# Altium footprint library btretro_pcblib.PcbLib: 40 footprints (part 3 of 3)
Each footprint in its own frame and in the unit in brackets; x right, y up, seen from the top. Pads: shape width x height; smd on the part's side, far side on the other; paste and mask are expansions set on the pad; w line width, h text height; cw(c..) or ccw(c..) is an arc to the next point about the centre after c.
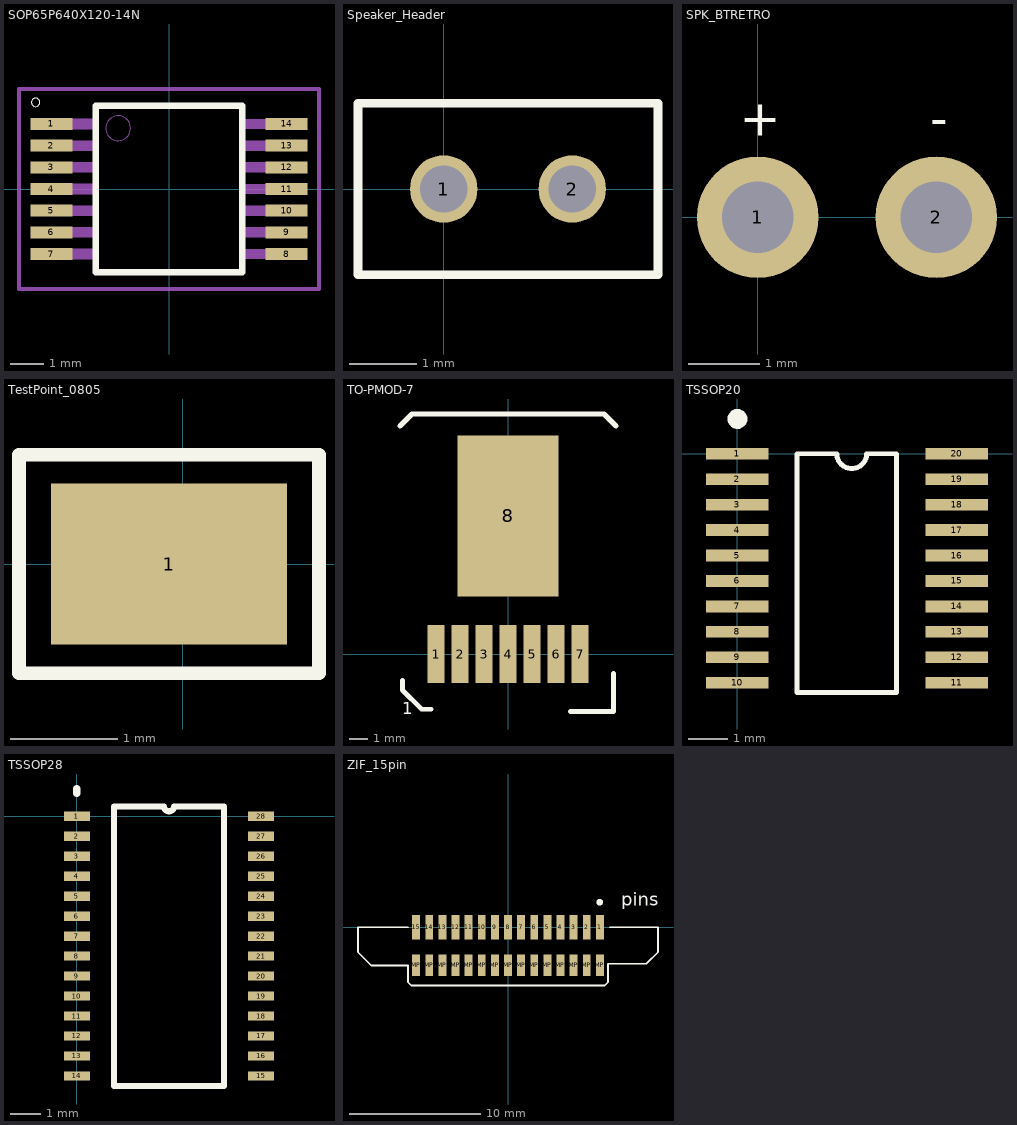
[diagram p2: the footprints below, top view; thin cyan lines are the x and y axes]

## SOP65P640X120-14N [mm]
pads (14):
  rect 1.26x0.36 smd: 1(-3.53,1.95) 2(-3.53,1.3) 3(-3.53,0.65) 4(-3.53,0) 5(-3.53,-0.65) 6(-3.53,-1.3) 7(-3.53,-1.95) 8(3.53,-1.95) 9(3.53,-1.3) 10(3.53,-0.65) 11(3.53,0) 12(3.53,0.65) 13(3.53,1.3) 14(3.53,1.95)
Top Overlay:
  circle w0: c-4,2.6 r0.127
  lines w0.203: -2.2,-2.5 -2.2,2.5 2.2,2.5 2.2,-2.5 -2.2,-2.5
Mechanical 1:
  circle w0: c-1.525,1.825 r0.375
  region: -2.227,2.102 -2.227,1.799 -3.201,1.799 -3.201,2.102
  region: -2.225,1.45 -2.225,1.15 -3.2,1.15 -3.2,1.45
  region: -2.228,0.803 -2.228,0.498 -3.202,0.498 -3.202,0.803
  region: -2.226,0.151 -2.226,-0.151 -3.201,-0.151 -3.201,0.151
  region: -2.226,-0.499 -2.226,-0.802 -3.202,-0.802 -3.202,-0.499
  region: -2.225,-1.15 -2.225,-1.452 -3.202,-1.452 -3.202,-1.15
  region: -2.225,-1.8 -2.225,-2.104 -3.204,-2.104 -3.204,-1.8
  region: 2.225,-2.1 2.225,-1.8 3.2,-1.8 3.2,-2.1
  region: 2.225,-1.45 2.225,-1.151 3.201,-1.151 3.201,-1.45
  region: 2.226,-0.799 2.226,-0.503 3.203,-0.503 3.203,-0.799
  region: 2.226,-0.149 2.226,0.148 3.202,0.148 3.202,-0.149
  region: 2.227,0.502 2.227,0.798 3.202,0.798 3.202,0.502
  region: 2.228,1.153 2.228,1.449 3.201,1.449 3.201,1.153
  region: 2.226,1.801 2.226,2.1 3.2,2.1 3.2,1.801
  lines w0.127: -4.5,-3 4.5,-3 4.5,3 -4.5,3 -4.5,-3

## Speaker_Header [mm]
pads (2):
  round 1 hole 0.7: 1(0,0) 2(1.905,0)
Top Overlay:
  lines w0.127: -1.27,-1.27 -1.27,1.27 1.016,1.27 3.175,1.27 3.175,-1.27 -1.27,-1.27

## SPK_BTRETRO [mm]
pads (2):
  round 1.7 hole 1: 1(0,0) 2(2.5,0)
Top Overlay:
  text "-" at 2.413,1.143 h0.5
  text "+" at -0.254,1.143 h0.5

## TestPoint_0805 [mm]
pads (1):
  rect 2.2x1.5 smd: 1(-0.127,0)
Top Overlay:
  lines w0.127: -1.524,-1.016 1.27,-1.016 1.27,1.016 0.508,1.016 -1.524,1.016 -1.524,-1.016

## TO-PMOD-7 [mm]
pads (8):
  rect 0.89x3.06 smd: 1(-3.81,0) 2(-2.54,0) 3(-1.27,0) 4(0,0) 5(1.27,0) 6(2.54,0) 7(3.81,0)
  rect 5.35x8.54 smd: 8(0,7.305)
Top Overlay:
  lines w0.254: -5.715,12.065 -5.08,12.7 0,12.7 5.08,12.7 5.715,12.065 ; -5.588,-1.397 -5.588,-1.905 -4.572,-2.921 -4.064,-2.921 ; 3.302,-3.048 5.588,-3.048 5.588,-1.016
  text "1" at -5.588,-3.175 h0.64

## TSSOP20 [mm]
pads (20):
  rect 1.6x0.3 smd: 1(0,0) 2(0,-0.65) 3(0,-1.3) 4(0,-1.95) 5(0,-2.6) 6(0,-3.25) 7(0,-3.9) 8(0,-4.55) 9(0,-5.2) 10(0,-5.85) 11(5.6,-5.85) 12(5.6,-5.2) 13(5.6,-4.55) 14(5.6,-3.9) 15(5.6,-3.25) 16(5.6,-2.6) 17(5.6,-1.95) 18(5.6,-1.3) 19(5.6,-0.65) 20(5.6,0)
Top Overlay:
  circle w0.254: c0,0.889 r0.127
  lines w0.127: 1.524,-6.096 4.064,-6.096 4.064,0 3.302,0 cw(c2.921,0) 2.54,0 1.524,0 1.524,-6.096

## TSSOP28 [mm]
pads (28):
  rect 0.85x0.3 smd: 1(0,0) 2(0,-0.65) 3(0,-1.3) 4(0,-1.95) 5(0,-2.6) 6(0,-3.25) 7(0,-3.9) 8(0,-4.55) 9(0,-5.2) 10(0,-5.85) 11(0,-6.5) 12(0,-7.15) 13(0,-7.8) 14(0,-8.45) 15(6,-8.45) 16(6,-7.8) 17(6,-7.15) 18(6,-6.5) 19(6,-5.85) 20(6,-5.2) 21(6,-4.55) 22(6,-3.9) 23(6,-3.25) 24(6,-2.6) 25(6,-1.95) 26(6,-1.3) 27(6,-0.65) 28(6,0)
Top Overlay:
  lines w0.2: 1.21,-8.775 1.21,0.325 2.838,0.325 ccw(c3,0.325) 3.162,0.325 4.79,0.325 4.79,-8.775 1.21,-8.775
  lines w0.254: 0,0.762 0,0.889

## ZIF_15pin [mm]
pads (30):
  rect 0.6x1.85 smd: 1(7,0) 2(6,0) 3(5,0) 4(4,0) 5(3,0) 6(2,0) 7(1,0) 8(0,0) 9(-1,0) 10(-2,0) 11(-3,0) 12(-4,0) 13(-5,0) 14(-6,0) 15(-7,0)
  rect 0.6x1.65 smd: MP(-7,-2.9) MP(-6,-2.9) MP(-5,-2.9) MP(-4,-2.9) MP(-3,-2.9) MP(-2,-2.9) MP(-1,-2.9) MP(0,-2.9) MP(1,-2.9) MP(2,-2.9) MP(3,-2.9) MP(4,-2.9) MP(5,-2.9) MP(6,-2.9) MP(7,-2.9)
Top Overlay:
  circle w0.254: c6.985,1.905 r0.127
  lines w0.127: -7.62,0 -11.43,0 -11.43,-1.905 -10.414,-2.921 -7.62,-2.921 -7.62,-4.191 -7.366,-4.445 7.366,-4.445 7.62,-4.191 7.62,-3.048 7.62,-2.794 10.287,-2.794 10.541,-2.794 11.43,-1.905 11.43,0 7.747,0
  text "pins" at 8.636,1.651 h1